# EAGLE library part SAMTEC_TMS-119 (library Traficon)
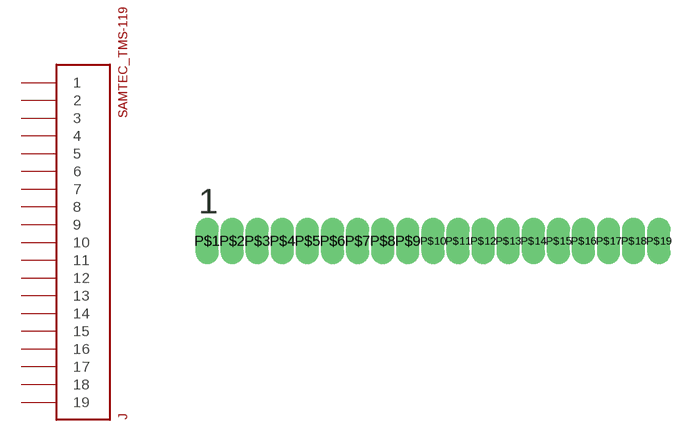
[diagram p224: symbol with the pads of SAMTEC-TMS-119; footprint SAMTEC-TMS-119]

Designator prefix J

## SAMTEC_TMS-119  [SAMTEC-TMS-119]
P$1  1
P$2  2
P$3  3
P$4  4
P$5  5
P$6  6
P$7  7
P$8  8
P$9  9
P$10  10
P$11  11
P$12  12
P$13  13
P$14  14
P$15  15
P$16  16
P$17  17
P$18  18
P$19  19

## Footprint SAMTEC-TMS-119 (pad centres in mm)
drill 0.66 pad 1.016 long: P$1 -11.422,-0.007; P$2 -10.152,-0.007; P$3 -8.882,-0.007; P$4 -7.612,-0.007; P$5 -6.342,-0.007; P$6 -5.072,-0.007; P$7 -3.802,-0.007; P$8 -2.532,-0.007; P$9 -1.262,-0.007; P$10 0.008,-0.007; P$11 1.278,-0.007; P$12 2.548,-0.007; P$13 3.818,-0.007; P$14 5.088,-0.007; P$15 6.358,-0.007; P$16 7.628,-0.007; P$17 8.898,-0.007; P$18 10.168,-0.007; P$19 11.438,-0.007